# EAGLE library part LM75BDP-NEW (library LM75BDP)
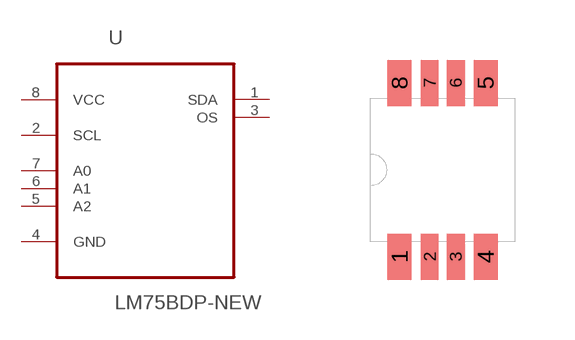
[diagram p0: symbol with the pads of SOT505-1; footprint SOT505-1]

Designator prefix -

## LM75BDP-NEW  [SOT505-1]
1  SDA
2  SCL  in
3  OS  out
4  GND  pas
5  A2  in
6  A1  in
7  A0  in
8  VCC  pwr

## Footprint SOT505-1 (pad centres in mm)
smd 0.6 x 1.15: 1 -1.077,-2.175; 4 1.077,-2.175; 5 1.077,2.175; 8 -1.077,2.175
smd 0.45 x 1.15: 2 -0.325,-2.175; 3 0.325,-2.175; 6 0.325,2.175; 7 -0.325,2.175